# Altium schematic symbol library AD53x7.SchLib: 1 symbol
Pins are listed as number, name and electrical type; pins without a type are passive.

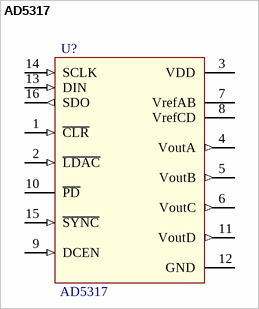
[diagram p0: symbol AD5317]

## AD5317
designator U?
10-Bit, Quad DAC with SPI Interface; value: AD5317
footprint TSSOP-16 (Shrink Small Outline; 16 Leads; Body Width 4.4 mm; Pitch 0.65 mm)
pins: 1 ~{CLR} (in), 2 ~{LDAC} (in), 3 VDD (power), 4 VoutA (out), 5 VoutB (out), 6 VoutC (out), 7 VrefAB (power), 8 VrefCD (power), 9 DCEN (in), 10 ~{PD}, 11 VoutD (out), 12 GND (power), 13 DIN (in), 14 SCLK (in), 15 ~{SYNC} (in), 16 SDO (out)